# EAGLE library part AD8531ARZ (library (common)-parts-that-we-use)
Single-Supply Amplifiers
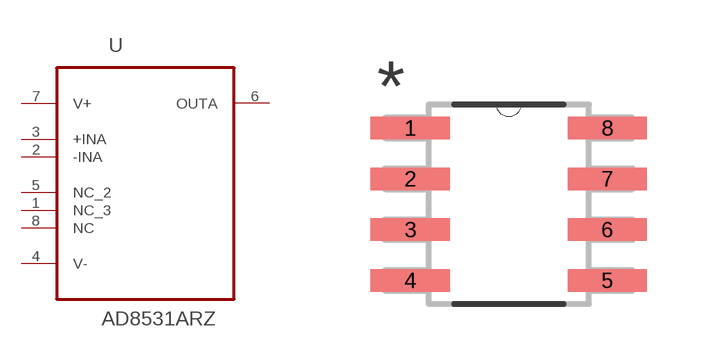
[diagram p4: symbol with the pads of SOIC127P600X175-8N; footprint SOIC127P600X175-8N]

Designator prefix U

## AD8531ARZ (MPN: AD8531ARZ; OC_FARNELL: 9605479; OC_NEWARK: 19M0961; PACKAGE: SOIC-8; SUPPLIER: Analog Devices)  [SOIC127P600X175-8N]
1  NC_3  nc
2  -INA  in
3  +INA  in
4  V-  pwr
5  NC_2  nc
6  OUTA  out
7  V+  pwr
8  NC  nc

## Footprint SOIC127P600X175-8N (pad centres in mm)
smd 1.981 x 0.559: 1 -2.464,1.905; 2 -2.464,0.635; 3 -2.464,-0.635; 4 -2.464,-1.905; 5 2.464,-1.905; 6 2.464,-0.635; 7 2.464,0.635; 8 2.464,1.905